# Altium footprint library lager.PcbLib: 2 footprints
Each footprint in its own frame and in the unit in brackets; x right, y up, seen from the top. Pads: shape width x height; smd on the part's side, far side on the other; paste and mask are expansions set on the pad; w line width, h text height; cw(c..) or ccw(c..) is an arc to the next point about the centre after c.
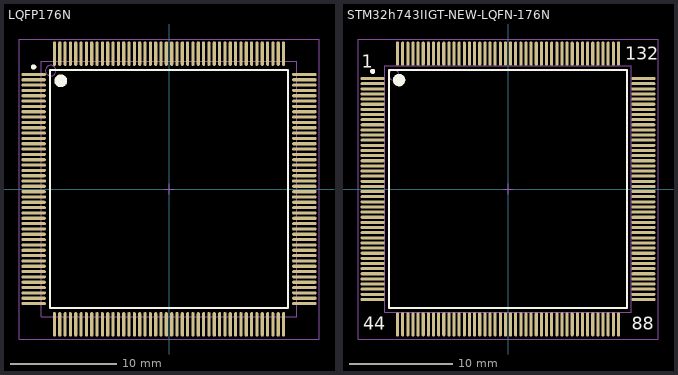
[diagram p0: the footprints below, top view; thin cyan lines are the x and y axes]

## LQFP176N [mm] "TSQFP, 176-Leads, Body 24.00x24.00mm, Pitch 0.50mm, IPC Medium Density"
height 1.6
pads (176):
  oval 2.3x0.3 smd: 1(-12.7,10.75) 2(-12.7,10.25) 3(-12.7,9.75) 4(-12.7,9.25) 5(-12.7,8.75) 6(-12.7,8.25) 7(-12.7,7.75) 8(-12.7,7.25) 9(-12.7,6.75) 10(-12.7,6.25) 11(-12.7,5.75) 12(-12.7,5.25) 13(-12.7,4.75) 14(-12.7,4.25) 15(-12.7,3.75) 16(-12.7,3.25) 17(-12.7,2.75) 18(-12.7,2.25) 19(-12.7,1.75) 20(-12.7,1.25) 21(-12.7,0.75) 22(-12.7,0.25) 23(-12.7,-0.25) 24(-12.7,-0.75) 25(-12.7,-1.25) 26(-12.7,-1.75) 27(-12.7,-2.25) 28(-12.7,-2.75) 29(-12.7,-3.25) 30(-12.7,-3.75) 31(-12.7,-4.25) 32(-12.7,-4.75) 33(-12.7,-5.25) 34(-12.7,-5.75) 35(-12.7,-6.25) 36(-12.7,-6.75) 37(-12.7,-7.25) 38(-12.7,-7.75) 39(-12.7,-8.25) 40(-12.7,-8.75) 41(-12.7,-9.25) 42(-12.7,-9.75) 43(-12.7,-10.25) 44(-12.7,-10.75) 89(12.7,-10.75) 90(12.7,-10.25) 91(12.7,-9.75) 92(12.7,-9.25) 93(12.7,-8.75) 94(12.7,-8.25) 95(12.7,-7.75) 96(12.7,-7.25) 97(12.7,-6.75) 98(12.7,-6.25) 99(12.7,-5.75) 100(12.7,-5.25) 101(12.7,-4.75) 102(12.7,-4.25) 103(12.7,-3.75) 104(12.7,-3.25) 105(12.7,-2.75) 106(12.7,-2.25) 107(12.7,-1.75) 108(12.7,-1.25) 109(12.7,-0.75) 110(12.7,-0.25) 111(12.7,0.25) 112(12.7,0.75) 113(12.7,1.25) 114(12.7,1.75) 115(12.7,2.25) 116(12.7,2.75) 117(12.7,3.25) 118(12.7,3.75) 119(12.7,4.25) 120(12.7,4.75) 121(12.7,5.25) 122(12.7,5.75) 123(12.7,6.25) 124(12.7,6.75) 125(12.7,7.25) 126(12.7,7.75) 127(12.7,8.25) 128(12.7,8.75) 129(12.7,9.25) 130(12.7,9.75) 131(12.7,10.25) 132(12.7,10.75)
  oval 0.3x2.3 smd: 45(-10.75,-12.7) 46(-10.25,-12.7) 47(-9.75,-12.7) 48(-9.25,-12.7) 49(-8.75,-12.7) 50(-8.25,-12.7) 51(-7.75,-12.7) 52(-7.25,-12.7) 53(-6.75,-12.7) 54(-6.25,-12.7) 55(-5.75,-12.7) 56(-5.25,-12.7) 57(-4.75,-12.7) 58(-4.25,-12.7) 59(-3.75,-12.7) 60(-3.25,-12.7) 61(-2.75,-12.7) 62(-2.25,-12.7) 63(-1.75,-12.7) 64(-1.25,-12.7) 65(-0.75,-12.7) 66(-0.25,-12.7) 67(0.25,-12.7) 68(0.75,-12.7) 69(1.25,-12.7) 70(1.75,-12.7) 71(2.25,-12.7) 72(2.75,-12.7) 73(3.25,-12.7) 74(3.75,-12.7) 75(4.25,-12.7) 76(4.75,-12.7) 77(5.25,-12.7) 78(5.75,-12.7) 79(6.25,-12.7) 80(6.75,-12.7) 81(7.25,-12.7) 82(7.75,-12.7) 83(8.25,-12.7) 84(8.75,-12.7) 85(9.25,-12.7) 86(9.75,-12.7) 87(10.25,-12.7) 88(10.75,-12.7) 133(10.75,12.7) 134(10.25,12.7) 135(9.75,12.7) 136(9.25,12.7) 137(8.75,12.7) 138(8.25,12.7) 139(7.75,12.7) 140(7.25,12.7) 141(6.75,12.7) 142(6.25,12.7) 143(5.75,12.7) 144(5.25,12.7) 145(4.75,12.7) 146(4.25,12.7) 147(3.75,12.7) 148(3.25,12.7) 149(2.75,12.7) 150(2.25,12.7) 151(1.75,12.7) 152(1.25,12.7) 153(0.75,12.7) 154(0.25,12.7) 155(-0.25,12.7) 156(-0.75,12.7) 157(-1.25,12.7) 158(-1.75,12.7) 159(-2.25,12.7) 160(-2.75,12.7) 161(-3.25,12.7) 162(-3.75,12.7) 163(-4.25,12.7) 164(-4.75,12.7) 165(-5.25,12.7) 166(-5.75,12.7) 167(-6.25,12.7) 168(-6.75,12.7) 169(-7.25,12.7) 170(-7.75,12.7) 171(-8.25,12.7) 172(-8.75,12.7) 173(-9.25,12.7) 174(-9.75,12.7) 175(-10.25,12.7) 176(-10.75,12.7)
Top Overlay:
  circle w0.6: c-10.15,10.15 r0.3
  circle w0.25: c-12.7,11.45 r0.125
  lines w0.2: -11.15,-11.15 11.15,-11.15 11.15,11.15 -11.15,11.15 -11.15,-11.15
Mechanical 13:
  circle w0.1: c-11.1,11.1 r0.5
  lines w0.1: -12,-12 12,-12 12,12 -12,12 -12,-12
Mechanical 15:
  lines w0.05: -14.075,-14.075 14.075,-14.075 14.075,14.075 -14.075,14.075 -14.075,-14.075
  lines w0.1: -0.5,0 0.5,0 ; 0,-0.5 0,0.5
3D body: height 1.6, standoff 0.05, extent -12,-12 12,12

## STM32h743IIGT-NEW-LQFN-176N [mm] "TSQFP, 176-Leads, Body 24.00x24.00mm, Pitch 0.50mm, IPC Medium Density"
height 1.6
pads (176):
  oval 2.35x0.3 smd: 1(-13.175,10.75) 2(-13.175,10.25) 3(-13.175,9.75) 4(-13.175,9.25) 5(-13.175,8.75) 6(-13.175,8.25) 7(-13.175,7.75) 8(-13.175,7.25) 9(-13.175,6.75) 10(-13.175,6.25) 11(-13.175,5.75) 12(-13.175,5.25) 13(-13.175,4.75) 14(-13.175,4.25) 15(-13.175,3.75) 16(-13.175,3.25) 17(-13.175,2.75) 18(-13.175,2.25) 19(-13.175,1.75) 20(-13.175,1.25) 21(-13.175,0.75) 22(-13.175,0.25) 23(-13.175,-0.25) 24(-13.175,-0.75) 25(-13.175,-1.25) 26(-13.175,-1.75) 27(-13.175,-2.25) 28(-13.175,-2.75) 29(-13.175,-3.25) 30(-13.175,-3.75) 31(-13.175,-4.25) 32(-13.175,-4.75) 33(-13.175,-5.25) 34(-13.175,-5.75) 35(-13.175,-6.25) 36(-13.175,-6.75) 37(-13.175,-7.25) 38(-13.175,-7.75) 39(-13.175,-8.25) 40(-13.175,-8.75) 41(-13.175,-9.25) 42(-13.175,-9.75) 43(-13.175,-10.25) 44(-13.175,-10.75) 89(13.175,-10.75) 90(13.175,-10.25) 91(13.175,-9.75) 92(13.175,-9.25) 93(13.175,-8.75) 94(13.175,-8.25) 95(13.175,-7.75) 96(13.175,-7.25) 97(13.175,-6.75) 98(13.175,-6.25) 99(13.175,-5.75) 100(13.175,-5.25) 101(13.175,-4.75) 102(13.175,-4.25) 103(13.175,-3.75) 104(13.175,-3.25) 105(13.175,-2.75) 106(13.175,-2.25) 107(13.175,-1.75) 108(13.175,-1.25) 109(13.175,-0.75) 110(13.175,-0.25) 111(13.175,0.25) 112(13.175,0.75) 113(13.175,1.25) 114(13.175,1.75) 115(13.175,2.25) 116(13.175,2.75) 117(13.175,3.25) 118(13.175,3.75) 119(13.175,4.25) 120(13.175,4.75) 121(13.175,5.25) 122(13.175,5.75) 123(13.175,6.25) 124(13.175,6.75) 125(13.175,7.25) 126(13.175,7.75) 127(13.175,8.25) 128(13.175,8.75) 129(13.175,9.25) 130(13.175,9.75) 131(13.175,10.25) 132(13.175,10.75)
  oval 0.3x2.35 smd: 45(-10.75,-13.175) 46(-10.25,-13.175) 47(-9.75,-13.175) 48(-9.25,-13.175) 49(-8.75,-13.175) 50(-8.25,-13.175) 51(-7.75,-13.175) 52(-7.25,-13.175) 53(-6.75,-13.175) 54(-6.25,-13.175) 55(-5.75,-13.175) 56(-5.25,-13.175) 57(-4.75,-13.175) 58(-4.25,-13.175) 59(-3.75,-13.175) 60(-3.25,-13.175) 61(-2.75,-13.175) 62(-2.25,-13.175) 63(-1.75,-13.175) 64(-1.25,-13.175) 65(-0.75,-13.175) 66(-0.25,-13.175) 67(0.25,-13.175) 68(0.75,-13.175) 69(1.25,-13.175) 70(1.75,-13.175) 71(2.25,-13.175) 72(2.75,-13.175) 73(3.25,-13.175) 74(3.75,-13.175) 75(4.25,-13.175) 76(4.75,-13.175) 77(5.25,-13.175) 78(5.75,-13.175) 79(6.25,-13.175) 80(6.75,-13.175) 81(7.25,-13.175) 82(7.75,-13.175) 83(8.25,-13.175) 84(8.75,-13.175) 85(9.25,-13.175) 86(9.75,-13.175) 87(10.25,-13.175) 88(10.75,-13.175) 133(10.75,13.175) 134(10.25,13.175) 135(9.75,13.175) 136(9.25,13.175) 137(8.75,13.175) 138(8.25,13.175) 139(7.75,13.175) 140(7.25,13.175) 141(6.75,13.175) 142(6.25,13.175) 143(5.75,13.175) 144(5.25,13.175) 145(4.75,13.175) 146(4.25,13.175) 147(3.75,13.175) 148(3.25,13.175) 149(2.75,13.175) 150(2.25,13.175) 151(1.75,13.175) 152(1.25,13.175) 153(0.75,13.175) 154(0.25,13.175) 155(-0.25,13.175) 156(-0.75,13.175) 157(-1.25,13.175) 158(-1.75,13.175) 159(-2.25,13.175) 160(-2.75,13.175) 161(-3.25,13.175) 162(-3.75,13.175) 163(-4.25,13.175) 164(-4.75,13.175) 165(-5.25,13.175) 166(-5.75,13.175) 167(-6.25,13.175) 168(-6.75,13.175) 169(-7.25,13.175) 170(-7.75,13.175) 171(-8.25,13.175) 172(-8.75,13.175) 173(-9.25,13.175) 174(-9.75,13.175) 175(-10.25,13.175) 176(-10.75,13.175)
Top Overlay:
  circle w0.25: c-13.175,11.45 r0.125
  circle w0.6: c-10.6,10.6 r0.3
  lines w0.2: -11.6,-11.6 -11.6,11.6 11.6,11.6 11.6,-11.6 -11.6,-11.6
  text "1" at -14.224,11.811 h1.24
  text "44" at -14.097,-13.716 h1.24
  text "88" at 12.065,-13.716 h1.24
  text "132" at 11.43,12.573 h1.24
Mechanical 13:
  circle w0.1: c-11.1,11.1 r0.5
  lines w0.1: -12,-12 -12,12 12,12 12,-12 -12,-12
Mechanical 15:
  lines w0.05: -14.6,-14.6 -14.6,14.6 14.6,14.6 14.6,-14.6 -14.6,-14.6
  lines w0.1: -0.5,0 0.5,0 ; 0,-0.5 0,0.5
3D body: height 1.6, standoff 0.15, extent -12,-12 12,12